# EAGLE library part TE_2305018-2 (library Beechat_crank)
TYPE C RECEPTACLE ON BOARD
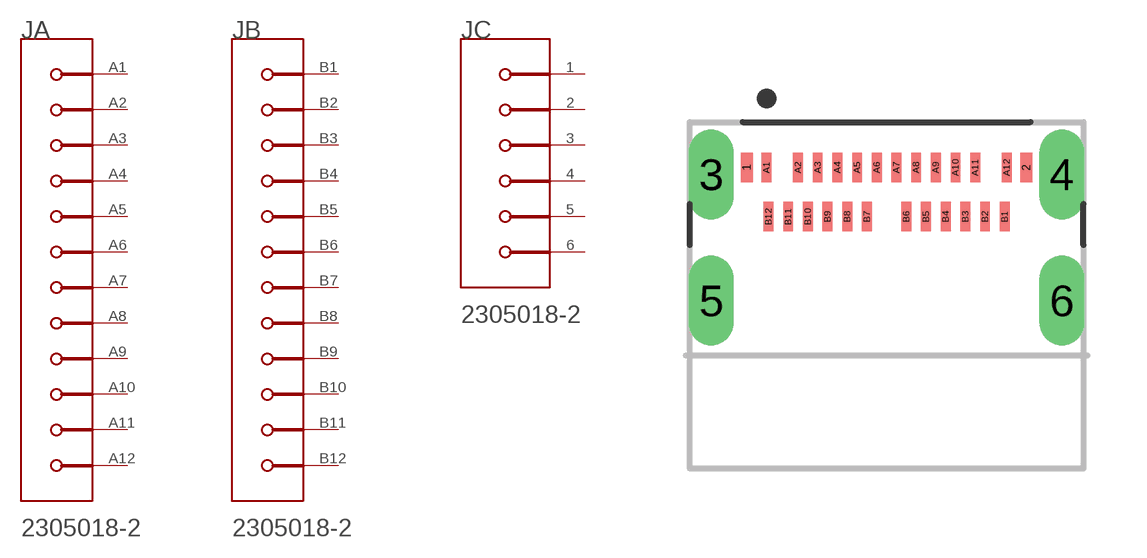
[diagram p5: symbol with the pads of TE_2305018-2_0; footprint TE_2305018-2_0]

Designator prefix J; gates A=TE_2305018-2_0_0 B=TE_2305018-2_0_1 C=TE_2305018-2_0_2

## TE_2305018-2TE_2305018-2_0_0 (CENTROID_NOT_SPECIFIED: Yes; CONN_ORIENTATION: Right Angle; CONTACT_MATERIAL: Gold; CURRENT_RATING: 5A; DATASHEET: http://www.te.com/commerce/DocumentDelivery/DDEController?Action=showdoc&DocId=Customer+Drawing%7F2305018%7F6%7Fpdf%7FEnglish%7FENG_CD_2305018_6.pdf%7F2305018-2; DEVICE_CLASS_L1: Connectors; DEVICE_CLASS_L2: USB Connectors; DEVICE_CLASS_L3: unset; DIGIKEY_DESCRIPTION: CONN USB TYPE C, REC IPX8 ON BOARD DU; DIGIKEY_PART_NUMBER: A132569CT-ND; HEIGHT: 4.21mm; IS_FEMALE: yes; LEAD_FREE: yes; MF: TE; MFG_PACKAGE_IDENT: 2305018-2; MFG_PACKAGE_IDENT_DATE: 0; MFG_PACKAGE_IDENT_REV: 0; MOUSER_DESCRIPTION: TYPE C Right Angle Sealable SMT IPX8 3.1 GEN 2 Wire to Board USB; MOUSER_PART_NUMBER: 571-2305018-2; MPN: 2305018-2; NUMBER_OF_CONTACTS: 30; PACKAGE: CONN_USB_C; PREFIX: J; ROHS: yes; SHIELDING: true; TEMPERATURE_RANGE_HIGH: +85°C; TEMPERATURE_RANGE_LOW: -30°C; USB_STANDARD: USB 3.1; VERIFICATION_VERSION: 0.0.0.1; VOLTAGE_RATING: 30V)  [TE_2305018-2_0]
1  C:5_GND  pwr
2  C:6_GND  pwr
3  C:MNT_1  pas
4  C:MNT_2  pas
5  C:MNT_3  pas
6  C:MNT_4  pas
A1  A:1_GND  pwr
A2  A:TX1+  out
A3  A:TX1-  out
A4  A:1_VBUS  pwr
A5  A:CC1  pas
A6  A:1_D+
A7  A:1_D-
A8  A:SBU1
A9  A:2_VBUS  pwr
A10  A:RX2-  in
A11  A:RX2+  in
A12  A:2_GND  pwr
B1  B:3_GND  pwr
B2  B:TX2+  out
B3  B:TX2-  out
B4  B:3_VBUS  pwr
B5  B:CC2  pas
B6  B:2_D+
B7  B:2_D-
B8  B:SBU2
B9  B:4_VBUS  pwr
B10  B:RX1-  in
B11  B:RX1+  in
B12  B:4_GND  pwr

## Footprint TE_2305018-2_0 (pad centres in mm)
TYPE C RECEPTACLE ON BOARD
smd 0.3 x 0.75: 1 -3.55,3.625; 2 3.55,3.625
drill 0.635 pad 1.067 long: 3 -4.45,3.45; 4 4.45,3.45; 5 -4.45,0.25; 6 4.45,0.25
smd 0.25 x 0.75: A1 -3.05,3.625; A2 -2.25,3.625; A3 -1.75,3.625; A4 -1.25,3.625; A5 -0.75,3.625; A6 -0.25,3.625; A7 0.25,3.625; A8 0.75,3.625; A9 1.25,3.625; A10 1.75,3.625; A11 2.25,3.625; A12 3.05,3.625; B1 3,2.375; B2 2.5,2.375; B3 2,2.375; B4 1.5,2.375; B5 1,2.375; B6 0.5,2.375; B7 -0.5,2.375; B8 -1,2.375; B9 -1.5,2.375; B10 -2,2.375; B11 -2.5,2.375; B12 -3,2.375